# EAGLE library part LM2596S-ADJ (library voltageRegulator_switching)
Conv DC-DC Single Inv/Step Down 4.5V to 40V 6-Pin(5+Tab) TO-263 Rail Check availability <https://pricing.snapeda.com/parts/LM2596S-ADJ/Texas%20Instruments/view-part?ref=eda>
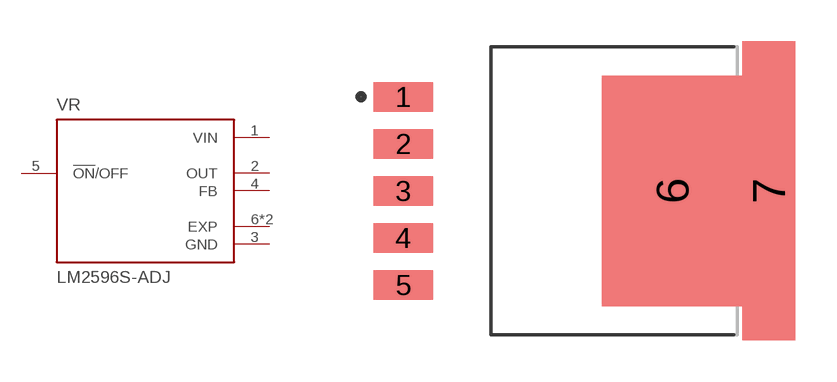
[diagram p2: symbol with the pads of VREG_LM2596S-ADJ; footprint VREG_LM2596S-ADJ]

Designator prefix VR

## LM2596S-ADJ (AVAILABILITY: In Stock; CHECK_PRICES: https://www.snapeda.com/parts/LM2596S-ADJ/Texas+Instruments/view-part/?ref=eda; DESCRIPTION: Buck Switching Regulator IC Positive Adjustable 1.2V 1 Output 3A TO-263-6, D2PAK (5 Leads + Tab), TO-263BA; MF: Texas Instruments; MP: LM2596S-ADJ; PACKAGE: TO-263-5 Texas Instruments; PRICE: None; SNAPEDA_LINK: https://www.snapeda.com/parts/LM2596S-ADJ/Texas+Instruments/view-part/?ref=snap)  [VREG_LM2596S-ADJ]
1  VIN  pwr
2  OUT  out
3  GND  pwr
4  FB  in
5  !ON!/OFF  in
6  EXP  pwr
7  EXP  pwr

## Footprint VREG_LM2596S-ADJ (pad centres in mm)
smd 2.16 x 1.07: 1 -6.545,3.4; 2 -6.545,1.7; 3 -6.545,0; 4 -6.545,-1.7; 5 -6.545,-3.4
smd 5.08 x 8.33: 6 3.175,0
smd 1.91 x 10.8: 7 6.67,0